# Altium integrated library 826938-3.IntLib: 1 symbol
Pins are listed as number, name and electrical type; pins without a type are passive.

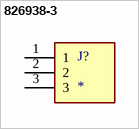
[diagram p0: symbol 826938-3]

## 826938-3
designator J?
MP: 826938-3; Package: None; Price: None; Value: *; Availability: Unavailable
footprint TE_826938-3
pins: 1, 2, 3